# EAGLE library part TDA8137 (library TDA8137)
DUAL 5.1V REGULATOR WITH DISABLE AND RESET
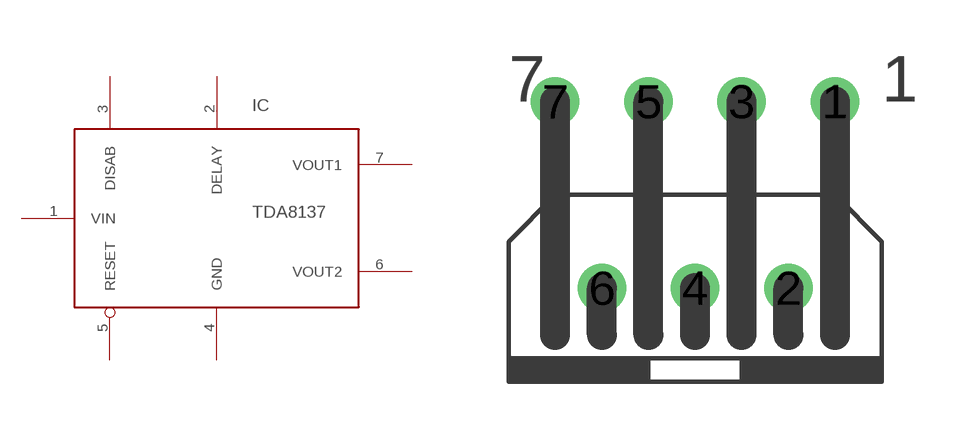
[diagram p0: symbol with the pads of HEPTAWATT; footprint HEPTAWATT]

Designator prefix IC

## TDA8137  [HEPTAWATT]
1  VIN  in
2  DELAY  out
3  DISAB  in
4  GND  sup
5  RESET  in
6  VOUT2  out
7  VOUT1  out

## Footprint HEPTAWATT (pad centres in mm)
HEPTAWATT 7
drill 0.813 round: 1 3.81,5.08; 2 2.54,0; 3 1.27,5.08; 4 0,0; 5 -1.27,5.08; 6 -2.54,0; 7 -3.81,5.08